# Altium integrated library SMD_CAP_100pF.IntLib: 1 symbol
Pins are listed as number, name and electrical type; pins without a type are passive.

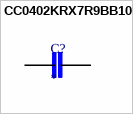
[diagram p0: symbol CC0402KRX7R9BB101]

## CC0402KRX7R9BB101
designator C?
100 pF Â±10% 50V Ceramic Capacitor X7R 0402 (1005 Metric); MF: Yageo; MP: CC0402KRX7R9BB101; SnapEDA_Link: https://www.snapeda.com/parts/CC0402KRX7R9BB101/Yageo/view-part/?ref=snap; Package: 0402 Yageo; Value: *; Check_prices: https://www.snapeda.com/parts/CC0402KRX7R9BB101/Yageo/view-part/?ref=eda
footprint CAPC1005X60
pins: 1, 2